# EAGLE library part SNES-MOTHERBOARD-HEADER (library nintendo-classic)
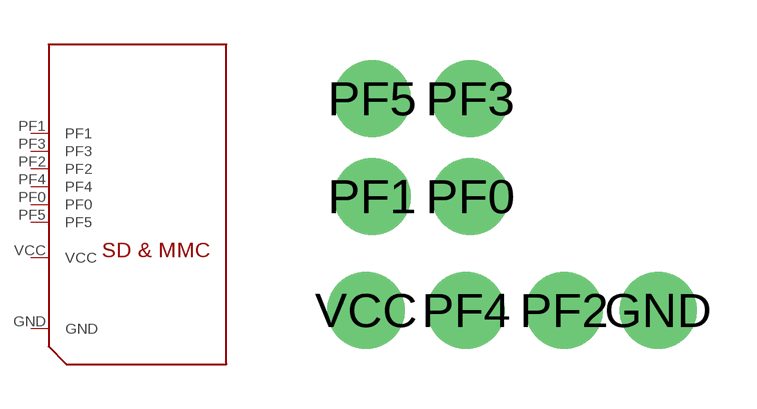
[diagram p2: symbol with the pads of SNES-MOTHERBOARD-HEADER; footprint SNES-MOTHERBOARD-HEADER]

Designator prefix -

## SNES-MOTHERBOARD-HEADER  [SNES-MOTHERBOARD-HEADER]
GND  GND  sup
PF0  PF0
PF1  PF1  out
PF2  PF2  in
PF3  PF3  in
PF4  PF4  in
PF5  PF5
VCC  VCC  sup

## Footprint SNES-MOTHERBOARD-HEADER (pad centres in mm)
THROUGH-HOLE PAD
drill 1 pad 1.93: GND 7.3,0; PF0 2.6,2.85; PF1 0.15,2.85; PF2 4.95,0; PF3 2.6,5.3; PF4 2.5,0; PF5 0.15,5.3; VCC 0,0